# Altium schematic symbol library ESP32-S3-WROOM-1.SchLib: 61 symbols (part 1 of 7)
Pins are listed as number, name and electrical type; pins without a type are passive.

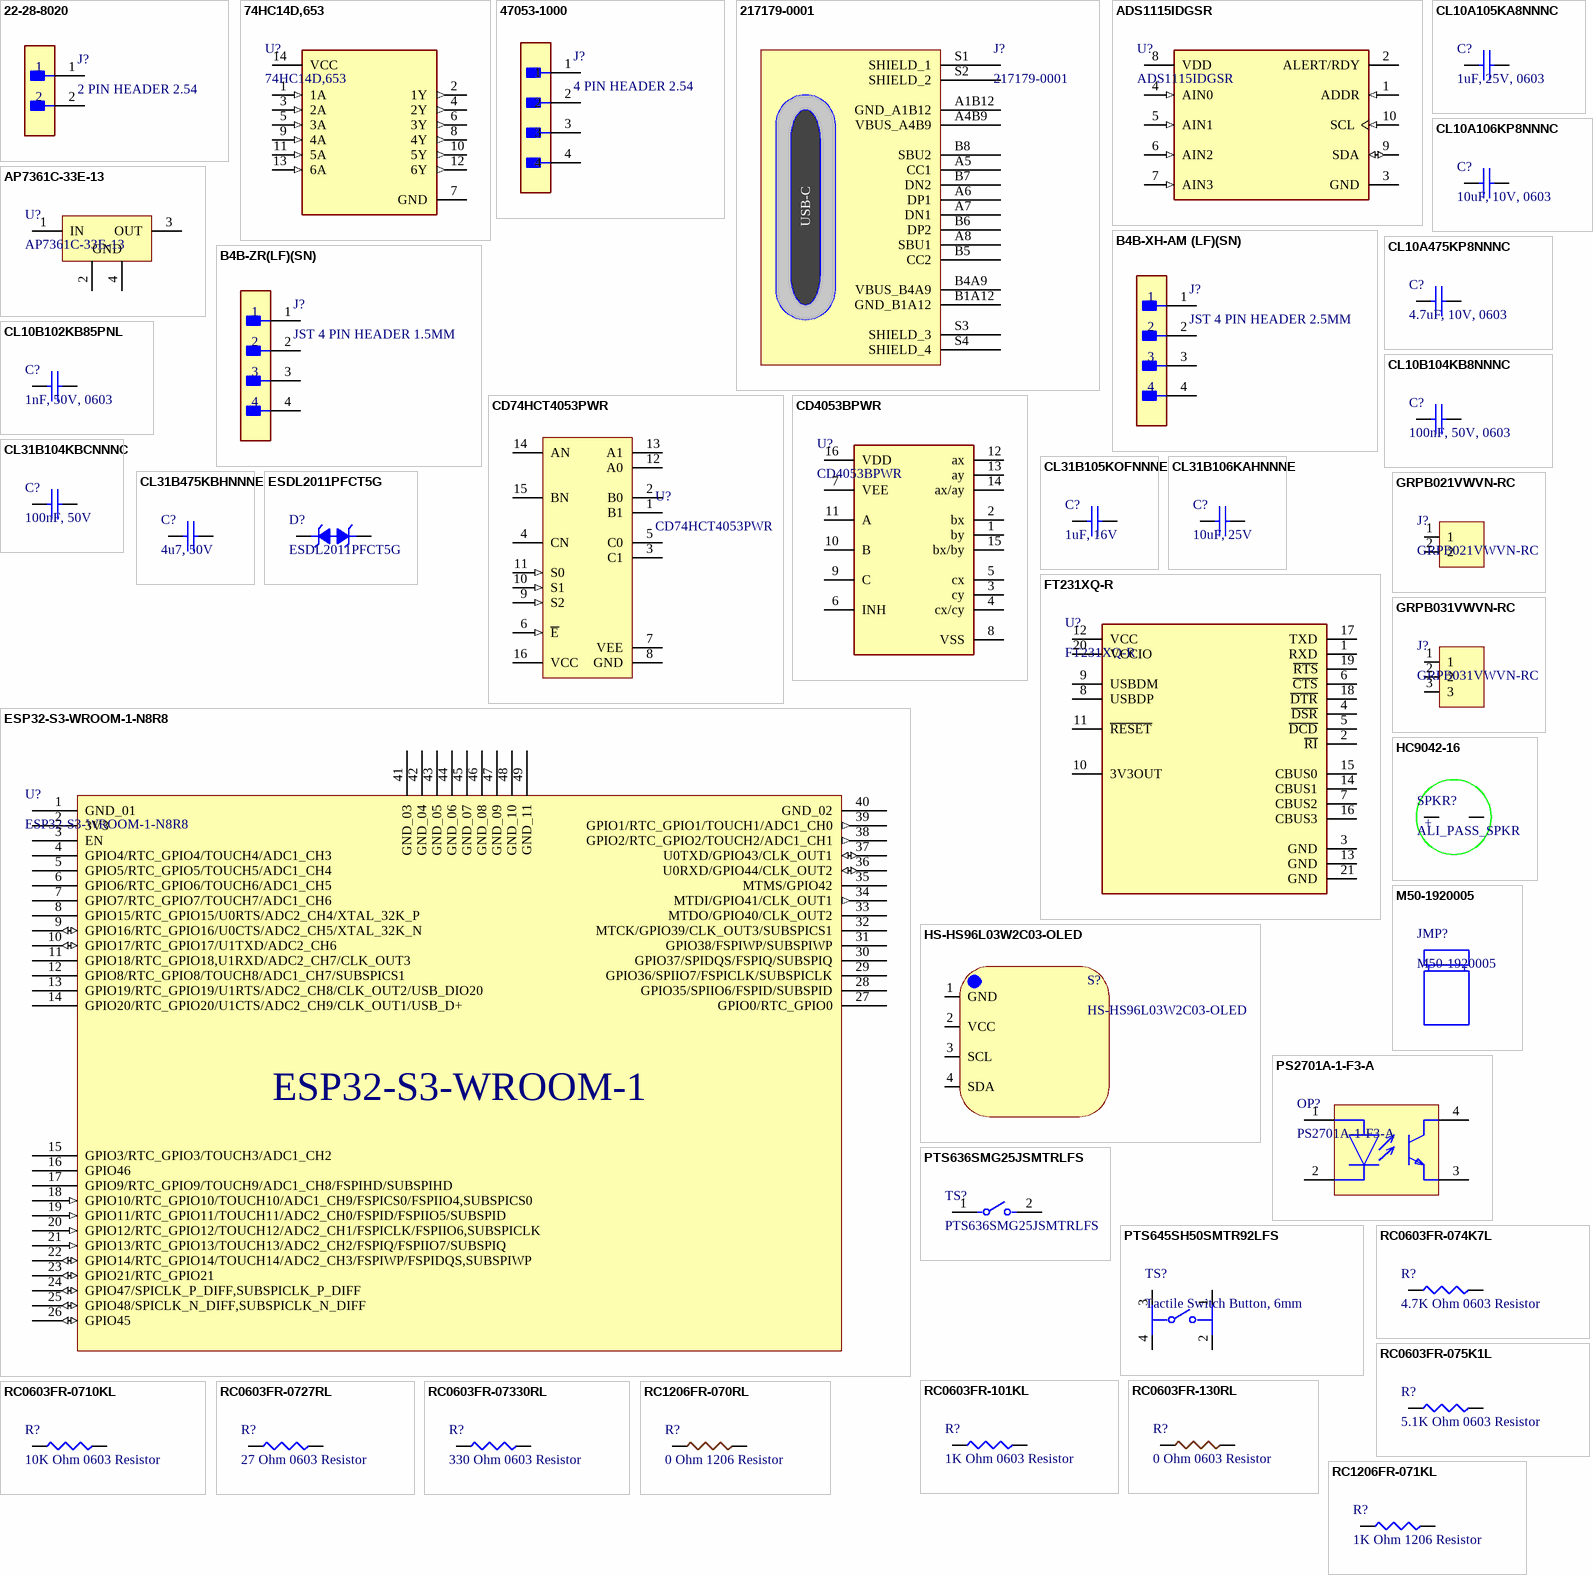
[diagram p0: symbols 22-28-8020 to RC1206FR-071KL]

## 22-28-8020
designator J?, comment 2 PIN HEADER 2.54
CONN HEADER R/A 2POS 2.54MM; Manufacturer: Molex; Manufacturer Lifecycle Status: ACTIVE; Contact Resistance: 10mΩ; Current Rating: 4A; Gender: Male; Glow Wire Compliant: Non-compliant; Insulation Resistance: 1GΩ; Max Voltage Rating (DC): 250.25kV; Number of Circuits: 2; Operating Force: 4.8928N; Plating: Tin; Plating Thickness: 2.54µm; Voltage Rating: 500V; Voltage Rating (DC): 250V; Supplier: DigiKey; Supplier Part Number: WM50013-02-ND; Manufacturer Part Number: 22-28-8020; RoHS: Compliant; Category: Headers and Wire Housings; Stock: 771; Pricing: 1=0.38, 10=0.318, 100=0.38, 500=0.24124, 1000=0.22972, 5000=0.20505, 10000=0.19526 (EUR); China RoHS: Compliant; Color: Black; Contact Gender: Male; Contact Material: Nickel, Tin; Contact Plating: Tin; Country of Origin: US; Flammability Rating: UL94 V-0; Height: 2.74mm; Housing Color: Black; Housing Material: Thermoplastic; Lead Free: Lead Free; Lead Pitch: 2.54mm; Lifecycle Status: Production; Max Operating Temperature: 80°C; Min Operating Temperature: -40°C; Mounting Technology: Through Hole; Number of Contacts: 2; Pins: 2; Number of Positions: 2; Number of Rows: 1; Orientation: Right Angle; Packaging: Bulk; Pitch: 2.54mm; Radiation Hardening: No; REACH SVHC: Yes; Terminal Pitch: 2.54mm; Termination: Through Hole; ComponentLink1URL: https://datasheet.octopart.com:443/22-28-8020-Molex-datasheet-158885819.pdf?src-supplier=Newark; ComponentLink1Description: https://datasheet.octopart.com:443/22-28-8020-Molex-datasheet-158885819.pdf?src-supplier=Newark; ComponentLink2URL: https://datasheet.octopart.com:443/22-28-8020-Molex-datasheet-16301288.pdf?src-supplier=Molex; ComponentLink2Description: https://datasheet.octopart.com:443/22-28-8020-Molex-datasheet-16301288.pdf?src-supplier=Molex; ComponentLink3URL: https://sigma.octopart.com:443/12577388/technical_drawing/Molex-22-28-8020.pdf?src-supplier=Molex; ComponentLink3Description: https://sigma.octopart.com:443/12577388/technical_drawing/Molex-22-28-8020.pdf?src-supplier=Molex; ComponentLink4URL: https://datasheet.octopart.com:443/022288020-Molex-datasheet-8335722.pdf?src-supplier=Molex; ComponentLink4Description: https://datasheet.octopart.com:443/022288020-Molex-datasheet-8335722.pdf?src-supplier=Molex; ComponentLink5URL: https://datasheet.octopart.com:443/22-28-8020-Molex-datasheet-77519799.pdf?src-supplier=element14+APAC; ComponentLink5Description: https://datasheet.octopart.com:443/22-28-8020-Molex-datasheet-77519799.pdf?src-supplier=element14+APAC; ComponentLink6URL: https://datasheet.octopart.com:443/22-28-8020-Molex-datasheet-21206989.pdf?src-supplier=element14+APAC; ComponentLink6Description: https://datasheet.octopart.com:443/22-28-8020-Molex-datasheet-21206989.pdf?src-supplier=element14+APAC; ComponentLink7URL: https://datasheet.octopart.com:443/22-28-8020-Molex-datasheet-66628180.pdf?src-supplier=element14+APAC; ComponentLink7Description: https://datasheet.octopart.com:443/22-28-8020-Molex-datasheet-66628180.pdf?src-supplier=element14+APAC; ComponentLink8URL: https://datasheet.octopart.com:443/22-28-8020-Molex-datasheet-154747351.pdf?src-supplier=Master+Electronics; ComponentLink8Description: https://datasheet.octopart.com:443/22-28-8020-Molex-datasheet-154747351.pdf?src-supplier=Master+Electronics; ComponentLink9URL: https://datasheet.octopart.com:443/22-28-8020-Molex-datasheet-140181320.pdf?src-supplier=RS+(Formerly+Allied+Electronics); ComponentLink9Description: https://datasheet.octopart.com:443/22-28-8020-Molex-datasheet-140181320.pdf?src-supplier=RS+(Formerly+Allied+Electronics); ComponentLink10URL: https://datasheet.octopart.com:443/22-28-8020-Molex-datasheet-120146384.pdf?src-supplier=RS+(Formerly+Allied+Electronics); ComponentLink10Description: https://datasheet.octopart.com:443/22-28-8020-Molex-datasheet-120146384.pdf?src-supplier=RS+(Formerly+Allied+Electronics); ComponentLink11URL: https://datasheet.octopart.com:443/22-28-8020-Molex-datasheet-62280231.pdf?src-supplier=Electro+Sonic; ComponentLink11Description: https://datasheet.octopart.com:443/22-28-8020-Molex-datasheet-62280231.pdf?src-supplier=Electro+Sonic; ComponentLink12URL: https://datasheet.octopart.com:443/22-28-8020-Molex-datasheet-42201833.pdf?src-supplier=Electro+Sonic; ComponentLink12Description: https://datasheet.octopart.com:443/22-28-8020-Molex-datasheet-42201833.pdf?src-supplier=Electro+Sonic; ComponentLink13URL: https://datasheet.octopart.com:443/22-28-8020-Molex-datasheet-132467.pdf?src-supplier=DigiKey; ComponentLink13Description: https://datasheet.octopart.com:443/22-28-8020-Molex-datasheet-132467.pdf?src-supplier=DigiKey; ComponentLink14URL: http://sigma.octopart.com:80/16301292/rohs_statement/Molex-22-28-8020.pdf?src-supplier=Compliance+Statements; ComponentLink14Description: http://sigma.octopart.com:80/16301292/rohs_statement/Molex-22-28-8020.pdf?src-supplier=Compliance+Statements; ComponentLink15URL: http://sigma.octopart.com:80/conflict_mineral_statement/Molex-company-72.pdf?src-supplier=Compliance+Statements; ComponentLink15Description: http://sigma.octopart.com:80/conflict_mineral_statement/Molex-company-72.pdf?src-supplier=Compliance+Statements; ComponentLink16URL: http://sigma.octopart.com:80/rohs_statement/Molex-company-73.pdf?src-supplier=Compliance+Statements; ComponentLink16Description: http://sigma.octopart.com:80/rohs_statement/Molex-company-73.pdf?src-supplier=Compliance+Statements; ComponentLink17URL: http://sigma.octopart.com:80/reach_statement/Molex-company-74.pdf?src-supplier=Compliance+Statements; ComponentLink17Description: http://sigma.octopart.com:80/reach_statement/Molex-company-74.pdf?src-supplier=Compliance+Statements; LCSC Part Number: C225488
footprint 22-28-8020
pins: 1, 2

## 74HC14D,653
designator U?
IC INVERT SCHMITT 6CH 1-INP 14SO; Manufacturer: Nexperia; Manufacturer Lifecycle Status: RELEASED FOR SUPPLY; Frequency: 36MHz; Load Capacitance: 50pF; Low Level Output Current: 4mA; Max Supply Current: 50mA; Max Supply Voltage: 6V; Min Supply Voltage: 2V; Nominal Supply Current: 2µA; Number of Circuits: 6; Number of Inputs: 1; Operating Supply Voltage: 5V; Output Current: 5.2mA; Propagation Delay: 38ns; Schmitt Trigger Input: Yes; Supplier: DigiKey; Supplier Part Number: 1727-2783-1-ND; Manufacturer Part Number: 74HC14D,653; RoHS: Compliant; Category: Logic Gates; Stock: 25804; Pricing: 1=0.18, 10=0.122, 25=0.18, 100=0.0919, 250=0.08432, 500=0.07976, 1000=0.07602 (EUR); Ambient Temperature Range High: 125°C; China RoHS: Compliant; Height: 1.75mm; Height - Seated (Max): 1.75mm; Length: 8.65mm; Lifecycle Status: Production; Max Operating Temperature: 125°C; Min Operating Temperature: -40°C; Number of Outputs: 1; Pins: 14; Number of Terminals: 14; Quiescent Current: 2µA; REACH SVHC: Yes; Schedule B: 8542390000, 8542390000|8542390000|8542390000|8542390000|8542390000; Terminal Pitch: 1.27mm; Width: 3.9mm; ComponentLink1URL: https://sigma.octopart.com:443/138897138/technical_drawing/Nexperia-74HC14D%2C653.pdf?src-supplier=Upverter; ComponentLink1Description: https://sigma.octopart.com:443/138897138/technical_drawing/Nexperia-74HC14D%2C653.pdf?src-supplier=Upverter; ComponentLink2URL: https://datasheet.octopart.com:443/74HC14D%2C653-Nexperia-datasheet-86672698.pdf?src-supplier=IHS; ComponentLink2Description: https://datasheet.octopart.com:443/74HC14D%2C653-Nexperia-datasheet-86672698.pdf?src-supplier=IHS; ComponentLink3URL: https://datasheet.octopart.com:443/74HC14D%2C653-Nexperia-datasheet-59159939.pdf?src-supplier=IHS; ComponentLink3Description: https://datasheet.octopart.com:443/74HC14D%2C653-Nexperia-datasheet-59159939.pdf?src-supplier=IHS; ComponentLink4URL: https://datasheet.octopart.com:443/74HC14D%2C653-Nexperia-datasheet-12513506.pdf?src-supplier=element14+APAC; ComponentLink4Description: https://datasheet.octopart.com:443/74HC14D%2C653-Nexperia-datasheet-12513506.pdf?src-supplier=element14+APAC; ComponentLink5URL: https://datasheet.octopart.com:443/74HC14D%2C653-Nexperia-datasheet-8886356.pdf?src-supplier=element14+APAC; ComponentLink5Description: https://datasheet.octopart.com:443/74HC14D%2C653-Nexperia-datasheet-8886356.pdf?src-supplier=element14+APAC; ComponentLink6URL: https://datasheet.octopart.com:443/74HC14D%2C653-Nexperia-datasheet-9573.pdf?src-supplier=element14+APAC; ComponentLink6Description: https://datasheet.octopart.com:443/74HC14D%2C653-Nexperia-datasheet-9573.pdf?src-supplier=element14+APAC; ComponentLink7URL: https://datasheet.octopart.com:443/74HC14D%2C653-NXP-Semiconductors-datasheet-8374301.pdf?src-supplier=Jameco; ComponentLink7Description: https://datasheet.octopart.com:443/74HC14D%2C653-NXP-Semiconductors-datasheet-8374301.pdf?src-supplier=Jameco; ComponentLink8URL: http://sigma.octopart.com:80/rohs_statement/NXP-Semiconductors-company-12.pdf?src-supplier=Compliance+Statements; ComponentLink8Description: http://sigma.octopart.com:80/rohs_statement/NXP-Semiconductors-company-12.pdf?src-supplier=Compliance+Statements; ComponentLink9URL: http://sigma.octopart.com:80/reach_statement/NXP-Semiconductors-company-13.pdf?src-supplier=Compliance+Statements; ComponentLink9Description: http://sigma.octopart.com:80/reach_statement/NXP-Semiconductors-company-13.pdf?src-supplier=Compliance+Statements; LCSC Part Number: C5605
footprint 74HC14D,653
pins: 1 1A (in), 2 1Y (out), 3 2A (in), 4 2Y (out), 5 3A (in), 6 3Y (out), 7 GND (power), 8 4Y (out), 9 4A (in), 10 5Y (out), 11 5A (in), 12 6Y (out), 13 6A (in), 14 VCC (power)

## 47053-1000
designator J?, comment 4 PIN HEADER 2.54
CONN HEADER VERT 4POS 2.54MM; Manufacturer: Molex; Manufacturer Part Number: 47053-1000; Manufacturer Lifecycle Status: ACTIVE; Current Rating: 500mA; Dielectric Material: Polyamide; Gender: Male; Glow Wire Compliant: Non-compliant; Number of Circuits: 2; Number of Contacts: 4; Operating Force: 1.946N; Plating: Copper; Plating Thickness: 2.54µm; Voltage Rating: 500V; Voltage Rating (DC): 250V; Supplier: DigiKey; Supplier Part Number: WM4330-ND; RoHS: Compliant; Category: Headers and Wire Housings; Stock: 47133; Pricing: 1=0.42, 10=0.354, 100=0.42, 500=0.26844, 1000=0.25562, 5000=0.22817, 10000=0.21729 (EUR); Ambient Temperature Range High: 105°C; China RoHS: Compliant; Contact Gender: Male; Contact Material: Brass; Contact Plating: Tin; Country of Origin: HK; Depth: 5.84mm; Halogen Free: Low Halogen; Height: 7.7mm; Housing Color: Beige; Housing Material: Nylon; Lead Pitch: 2.54mm; Length: 10.2mm; Lifecycle Status: Production; Max Operating Temperature: 75°C; Min Operating Temperature: -40°C; Mounting Technology: Through Hole; Pins: 4; Number of Positions: 4; Number of Rows: 1; Orientation: Vertical; Packaging: Bulk; Pitch: 2.54mm; Radiation Hardening: No; REACH SVHC: Yes; Schedule B: 8536694040, 8536694040|8536694040|8536694040|8536694040|8536694040|8536694040|8536694040|8536694040|8536694040|8536694040|8536694040|8536694040|8536694040|8536694040|8536694040|8536694040|8536694040|8536694040|8536694040|8536694040|8536694040|8536694040|8536694040|85; Terminal Pitch: 2.54mm; Termination: Through Hole; ComponentLink1URL: https://datasheet.octopart.com:443/47053-1000-Molex-datasheet-154585791.pdf?src-supplier=Sager+Electronics; ComponentLink1Description: https://datasheet.octopart.com:443/47053-1000-Molex-datasheet-154585791.pdf?src-supplier=Sager+Electronics; ComponentLink2URL: https://datasheet.octopart.com:443/47053-1000-Molex-datasheet-13792061.pdf?src-supplier=Sager+Electronics; ComponentLink2Description: https://datasheet.octopart.com:443/47053-1000-Molex-datasheet-13792061.pdf?src-supplier=Sager+Electronics; ComponentLink3URL: https://datasheet.octopart.com:443/0470531000-Molex-datasheet-157440094.pdf?src-supplier=Sager+Electronics; ComponentLink3Description: https://datasheet.octopart.com:443/0470531000-Molex-datasheet-157440094.pdf?src-supplier=Sager+Electronics; ComponentLink4URL: https://sigma.octopart.com:443/154585790/technical_drawing/Molex-47053-1000.pdf?src-supplier=Upverter; ComponentLink4Description: https://sigma.octopart.com:443/154585790/technical_drawing/Molex-47053-1000.pdf?src-supplier=Upverter; ComponentLink5URL: https://datasheet.octopart.com:443/47053-1000-Molex-datasheet-141422371.pdf?src-supplier=Upverter; ComponentLink5Description: https://datasheet.octopart.com:443/47053-1000-Molex-datasheet-141422371.pdf?src-supplier=Upverter; ComponentLink6URL: https://datasheet.octopart.com:443/47053-1000-Molex-datasheet-154585785.pdf?src-supplier=Upverter; ComponentLink6Description: https://datasheet.octopart.com:443/47053-1000-Molex-datasheet-154585785.pdf?src-supplier=Upverter; ComponentLink7URL: https://datasheet.octopart.com:443/47053-1000-Molex-datasheet-16078519.pdf?src-supplier=TME; ComponentLink7Description: https://datasheet.octopart.com:443/47053-1000-Molex-datasheet-16078519.pdf?src-supplier=TME; ComponentLink8URL: https://datasheet.octopart.com:443/470531000-Molex-datasheet-8344792.pdf?src-supplier=Molex; ComponentLink8Description: https://datasheet.octopart.com:443/470531000-Molex-datasheet-8344792.pdf?src-supplier=Molex; ComponentLink9URL: https://datasheet.octopart.com:443/47053-1000-Molex-datasheet-101583033.pdf?src-supplier=element14+APAC; ComponentLink9Description: https://datasheet.octopart.com:443/47053-1000-Molex-datasheet-101583033.pdf?src-supplier=element14+APAC; ComponentLink10URL: https://datasheet.octopart.com:443/47053-1000-Molex-datasheet-154752195.pdf?src-supplier=Master+Electronics; ComponentLink10Description: https://datasheet.octopart.com:443/47053-1000-Molex-datasheet-154752195.pdf?src-supplier=Master+Electronics; ComponentLink11URL: https://datasheet.octopart.com:443/47053-1000-Molex-datasheet-33003494.pdf?src-supplier=Electro+Sonic; ComponentLink11Description: https://datasheet.octopart.com:443/47053-1000-Molex-datasheet-33003494.pdf?src-supplier=Electro+Sonic; ComponentLink12URL: https://datasheet.octopart.com:443/47053-1000-Molex-datasheet-62104864.pdf?src-supplier=Electro+Sonic; ComponentLink12Description: https://datasheet.octopart.com:443/47053-1000-Molex-datasheet-62104864.pdf?src-supplier=Electro+Sonic; ComponentLink13URL: https://datasheet.octopart.com:443/47053-1000-Molex-datasheet-24932734.pdf?src-supplier=Electro+Sonic; ComponentLink13Description: https://datasheet.octopart.com:443/47053-1000-Molex-datasheet-24932734.pdf?src-supplier=Electro+Sonic; ComponentLink14URL: https://datasheet.octopart.com:443/47053-1000-Molex-datasheet-140185186.pdf?src-supplier=RS+(Formerly+Allied+Electronics); ComponentLink14Description: https://datasheet.octopart.com:443/47053-1000-Molex-datasheet-140185186.pdf?src-supplier=RS+(Formerly+Allied+Electronics); ComponentLink15URL: https://datasheet.octopart.com:443/47053-1000-Molex-datasheet-120151286.pdf?src-supplier=RS+(Formerly+Allied+Electronics); ComponentLink15Description: https://datasheet.octopart.com:443/47053-1000-Molex-datasheet-120151286.pdf?src-supplier=RS+(Formerly+Allied+Electronics); ComponentLink16URL: https://datasheet.octopart.com:443/47053-1000-Molex-datasheet-31972472.pdf?src-supplier=RS+(Formerly+Allied+Electronics); ComponentLink16Description: https://datasheet.octopart.com:443/47053-1000-Molex-datasheet-31972472.pdf?src-supplier=RS+(Formerly+Allied+Electronics); ComponentLink17URL: https://datasheet.octopart.com:443/47053-1000-Molex-datasheet-37247467.pdf?src-supplier=RS+(Formerly+Allied+Electronics); ComponentLink17Description: https://datasheet.octopart.com:443/47053-1000-Molex-datasheet-37247467.pdf?src-supplier=RS+(Formerly+Allied+Electronics); ComponentLink18URL: https://datasheet.octopart.com:443/470531000-Molex-datasheet-137316104.pdf?src-supplier=Future+Electronics; ComponentLink18Description: https://datasheet.octopart.com:443/470531000-Molex-datasheet-137316104.pdf?src-supplier=Future+Electronics; ComponentLink19URL: https://datasheet.octopart.com:443/47053-1000-Molex-datasheet-42575110.pdf?src-supplier=Farnell; ComponentLink19Description: https://datasheet.octopart.com:443/47053-1000-Molex-datasheet-42575110.pdf?src-supplier=Farnell; ComponentLink20URL: https://datasheet.octopart.com:443/470531000-Molex-datasheet-151821780.pdf?src-supplier=Toby+Electronics; ComponentLink20Description: https://datasheet.octopart.com:443/470531000-Molex-datasheet-151821780.pdf?src-supplier=Toby+Electronics; ComponentLink21URL: http://sigma.octopart.com:80/16397823/rohs_statement/Molex-47053-1000.pdf?src-supplier=Compliance+Statements; ComponentLink21Description: http://sigma.octopart.com:80/16397823/rohs_statement/Molex-47053-1000.pdf?src-supplier=Compliance+Statements; ComponentLink22URL: http://sigma.octopart.com:80/conflict_mineral_statement/Molex-company-72.pdf?src-supplier=Compliance+Statements; ComponentLink22Description: http://sigma.octopart.com:80/conflict_mineral_statement/Molex-company-72.pdf?src-supplier=Compliance+Statements; ComponentLink23URL: http://sigma.octopart.com:80/rohs_statement/Molex-company-73.pdf?src-supplier=Compliance+Statements; ComponentLink23Description: http://sigma.octopart.com:80/rohs_statement/Molex-company-73.pdf?src-supplier=Compliance+Statements; ComponentLink24URL: http://sigma.octopart.com:80/reach_statement/Molex-company-74.pdf?src-supplier=Compliance+Statements; ComponentLink24Description: http://sigma.octopart.com:80/reach_statement/Molex-company-74.pdf?src-supplier=Compliance+Statements; LCSC Part Number: C240840
footprint 47053-1000
pins: 1, 2, 3, 4

## 217179-0001
designator J?
CONN RCP USB2.0 TYP C 24P SMD RA; Manufacturer: Molex; Contact Resistance: 50mΩ; Current Rating: 1.25A; Dielectric Material: Polyamide; Gender: Receptacle; Insulation Resistance: 100MΩ; Number of Contacts: 16; Number of Ports: 1; Voltage Rating: 30V; Supplier: DigiKey; Supplier Part Number: 900-2171790001CT-ND; Manufacturer Part Number: 217179-0001; RoHS: Compliant; Category: USB Connectors; Stock: 5092; Pricing: 1=0.83, 10=0.704, 25=0.6596, 50=0.628, 100=0.598, 250=0.56052, 500=0.53374, 1200=0.50175, 2400=0.4778, 3600=0.46433, 6000=0.4479, 8400=0.4374, 12000=0.42654 (USD); Contact Gender: Female; Contact Material: Gold, Nickel; Height: 3.36mm; Lifecycle Status: Production; Max Operating Temperature: 85°C; Min Operating Temperature: -40°C; Pins: 16; Number of Rows: 1; REACH SVHC: Yes; Shell Finish: Nickel; Shell Material: Stainless Steel; Terminal Pitch: 500µm; USB Standard: USB 2.0; ComponentLink1URL: https://datasheet.octopart.com:443/217179-0001-Molex-datasheet-158871109.pdf?src-supplier=ODG+(Origin+Data+Global); ComponentLink1Description: https://datasheet.octopart.com:443/217179-0001-Molex-datasheet-158871109.pdf?src-supplier=ODG+(Origin+Data+Global); ComponentLink2URL: https://sigma.octopart.com:443/158871110/technical_drawing/Molex-217179-0001.pdf?src-supplier=Upverter; ComponentLink2Description: https://sigma.octopart.com:443/158871110/technical_drawing/Molex-217179-0001.pdf?src-supplier=Upverter; ComponentLink3URL: https://datasheet.octopart.com:443/217179-0001-Molex-datasheet-164573281.pdf?src-supplier=RS+(Formerly+Allied+Electronics); ComponentLink3Description: https://datasheet.octopart.com:443/217179-0001-Molex-datasheet-164573281.pdf?src-supplier=RS+(Formerly+Allied+Electronics); ComponentLink4URL: http://sigma.octopart.com:80/conflict_mineral_statement/Molex-company-72.pdf?src-supplier=Compliance+Statements; ComponentLink4Description: http://sigma.octopart.com:80/conflict_mineral_statement/Molex-company-72.pdf?src-supplier=Compliance+Statements; ComponentLink5URL: http://sigma.octopart.com:80/rohs_statement/Molex-company-73.pdf?src-supplier=Compliance+Statements; ComponentLink5Description: http://sigma.octopart.com:80/rohs_statement/Molex-company-73.pdf?src-supplier=Compliance+Statements; ComponentLink6URL: http://sigma.octopart.com:80/reach_statement/Molex-company-74.pdf?src-supplier=Compliance+Statements; ComponentLink6Description: http://sigma.octopart.com:80/reach_statement/Molex-company-74.pdf?src-supplier=Compliance+Statements; LCSC Part Number: C3197684
footprint 217179-0001
pins: A1B12 GND_A1B12, A4B9 VBUS_A4B9, A5 CC1, A6 DP1, A7 DN1, A8 SBU1, B1A12 GND_B1A12, B4A9 VBUS_B4A9, B5 CC2, B6 DP2, B7 DN2, B8 SBU2, S1 SHIELD_1, S2 SHIELD_2, S3 SHIELD_3, S4 SHIELD_4
text: USB-C

## ADS1115IDGSR
designator U?
IC ADC 16BIT SIGMA-DELTA 10VSSOP; Manufacturer: Texas Instruments; Manufacturer Lifecycle Status: ACTIVE; Conversion Rate: 860sps; Integral Nonlinearity (INL): 1LSB; Interface: I2C; Max Junction Temperature (Tj): 150°C; Max Supply Voltage: 5.5V; Min Supply Voltage: 2V; Nominal Supply Current: 150µA; Number of A/D Converters: 1; Number of Bits: 16; Number of Channels: 2; Number of Inputs: 4; Polarity: Bipolar; Power Dissipation: 900µW; Resolution: 2B; Supply Type: Single; Supplier: DigiKey; Supplier Part Number: 296-38849-1-ND; Manufacturer Part Number: ADS1115IDGSR; RoHS: Compliant; Category: Analog to Digital Converters (ADCs); Stock: 9217; Pricing: 1=4.36, 10=3.329, 25=4.36, 100=2.785, 250=2.64912, 500=2.56724, 1000=2.49986 (EUR); Ambient Temperature Range High: 125°C; Case/Package: VSSOP; Contact Plating: Gold; Height: 1.07mm; Lead Free: Lead Free; Length: 3mm; Lifecycle Status: Production; Max Operating Temperature: 125°C; Max Supply Voltage (DC): 5.5V; Min Operating Temperature: -40°C; Min Supply Voltage (DC): 2V; Number of Converters: 1; Pins: 10; Radiation Hardening: No; REACH SVHC: No; Sampling Rate: 860sps; Schedule B: 8542390000, 8542390000|8542390000|8542390000|8542390000|8542390000; Thickness: 1.02mm; Width: 3mm; ComponentLink1URL: https://datasheet.octopart.com:443/ADS1115IDGSR-Texas-Instruments-datasheet-21818186.pdf?src-supplier=Newark; ComponentLink1Description: https://datasheet.octopart.com:443/ADS1115IDGSR-Texas-Instruments-datasheet-21818186.pdf?src-supplier=Newark; ComponentLink2URL: https://octopart.com:443/opatz8j6/c1?t=IuqcA-XNANVnUgh6bO5qed4pAqyN2BqXsIjLAySB2Hr-eHtD8pK9l6OOA6AGsTuVanxQmOkBsFQN-rlHciEN_k6CTJvcjzCJlSq-wVqGrNuiBwTkWy4ml0ROCJtQ1-lij77U2D_WoJ3znwfT0mMt9ikQ9I9gRMar-xW9CqMxsY2FjbMMvAysjMOkXQ1FlQyveQwqsSa6_aCP81y3rIEwyR4aAdYLYQAG9CvpdWj9_mOw_IWbI1A0mS4Nr3T47cwXgL4gd3vwJQBENC_vJJ1ljWY6eimCFVEfMSp8To8QyZoXqbl__zcnRO1ari-Z50yUygNu99GuoBJUHWWpTBL6cSd8XR7eVfe8TQCRE2bK5TYPZsJNK_jD7hLJEK0orzhEdbBg33g&src-supplier=Texas+Instruments; ComponentLink2Description: https://octopart.com:443/opatz8j6/c1?t=IuqcA-XNANVnUgh6bO5qed4pAqyN2BqXsIjLAySB2Hr-eHtD8pK9l6OOA6AGsTuVanxQmOkBsFQN-rlHciEN_k6CTJvcjzCJlSq-wVqGrNuiBwTkWy4ml0ROCJtQ1-lij77U2D_WoJ3znwfT0mMt9ikQ9I9gRMar-xW9CqMxsY2FjbMMvAysjMOkXQ1FlQyveQwqsSa6_aCP81y3rIEwyR4aAdYLYQAG9CvpdWj9_mOw_IWbI1A0mS4Nr3T47cwXgL4gd3vwJQBENC_vJJ1ljWY6eimCFVEfMSp8To8QyZoXqbl__zcnRO1ari-Z50yUygNu99GuoBJUHWWpTBL6cSd8XR7eVfe8TQCRE2bK5TYPZsJNK_jD7hLJEK0orzhEdbBg33g&src-supplier=Texas+Instruments; ComponentLink3URL: https://datasheet.octopart.com:443/ADS1115IDGSR-Texas-Instruments-datasheet-10254488.pdf?src-supplier=Texas+Instruments; ComponentLink3Description: https://datasheet.octopart.com:443/ADS1115IDGSR-Texas-Instruments-datasheet-10254488.pdf?src-supplier=Texas+Instruments; ComponentLink4URL: https://datasheet.octopart.com:443/ADS1115IDGSR-Texas-Instruments-datasheet-10258908.pdf?src-supplier=Texas+Instruments; ComponentLink4Description: https://datasheet.octopart.com:443/ADS1115IDGSR-Texas-Instruments-datasheet-10258908.pdf?src-supplier=Texas+Instruments; ComponentLink5URL: https://sigma.octopart.com:443/49250172/technical_drawing/Texas-Instruments-ADS1115IDGSR.pdf?src-supplier=Texas+Instruments; ComponentLink5Description: https://sigma.octopart.com:443/49250172/technical_drawing/Texas-Instruments-ADS1115IDGSR.pdf?src-supplier=Texas+Instruments; ComponentLink6URL: https://datasheet.octopart.com:443/ADS1115IDGSR-Texas-Instruments-datasheet-159114584.pdf?src-supplier=LCSC; ComponentLink6Description: https://datasheet.octopart.com:443/ADS1115IDGSR-Texas-Instruments-datasheet-159114584.pdf?src-supplier=LCSC; ComponentLink7URL: https://datasheet.octopart.com:443/ADS1115IDGSR-Texas-Instruments-datasheet-164412415.pdf?src-supplier=SHENGYU+ELECTRONICS; ComponentLink7Description: https://datasheet.octopart.com:443/ADS1115IDGSR-Texas-Instruments-datasheet-164412415.pdf?src-supplier=SHENGYU+ELECTRONICS; ComponentLink8URL: https://datasheet.octopart.com:443/ADS1115IDGSR-Texas-Instruments-datasheet-78774318.pdf?src-supplier=Farnell; ComponentLink8Description: https://datasheet.octopart.com:443/ADS1115IDGSR-Texas-Instruments-datasheet-78774318.pdf?src-supplier=Farnell; ComponentLink9URL: https://datasheet.octopart.com:443/ADS1115IDGSR-Texas-Instruments-datasheet-150582607.pdf?src-supplier=Arrow.cn; ComponentLink9Description: https://datasheet.octopart.com:443/ADS1115IDGSR-Texas-Instruments-datasheet-150582607.pdf?src-supplier=Arrow.cn; ComponentLink10URL: https://datasheet.octopart.com:443/ADS1115IDGSR-Texas-Instruments-datasheet-14070808.pdf?src-supplier=iiiC; ComponentLink10Description: https://datasheet.octopart.com:443/ADS1115IDGSR-Texas-Instruments-datasheet-14070808.pdf?src-supplier=iiiC; ComponentLink11URL: http://sigma.octopart.com:80/conflict_mineral_statement/Texas-Instruments-company-63.pdf?src-supplier=Compliance+Statements; ComponentLink11Description: http://sigma.octopart.com:80/conflict_mineral_statement/Texas-Instruments-company-63.pdf?src-supplier=Compliance+Statements; ComponentLink12URL: http://sigma.octopart.com:80/reach_statement/Texas-Instruments-company-64.pdf?src-supplier=Compliance+Statements; ComponentLink12Description: http://sigma.octopart.com:80/reach_statement/Texas-Instruments-company-64.pdf?src-supplier=Compliance+Statements; LCSC Part Number: C37593
footprint ADS1115IDGSR
pins: 1 ADDR (in), 2 ALERT/RDY (oc), 3 GND (power), 4 AIN0 (in), 5 AIN1 (in), 6 AIN2 (in), 7 AIN3 (in), 8 VDD (power), 9 SDA (io), 10 SCL (in)

## AP7361C-33E-13
designator U?
IC REG LINEAR 3.3V 1A SOT-223-3; Manufacturer: Diodes Inc.; Dropout Voltage: 360mV; Max Supply Voltage: 6V; Max Junction Temperature (Tj): 150°C; Min Current Limit: 1.1A; Min Input Voltage: 4.3V; Number of Channels: 1; Voltage Tolerance: 1%; Supplier: DigiKey; Supplier Part Number: AP7361C-33E-13DICT-ND; Manufacturer Part Number: AP7361C-33E-13; RoHS: Compliant; Category: LDO Voltage Regulators; Stock: 4888; Pricing: 1=0.39, 10=0.274, 25=0.39, 100=0.2121, 250=0.19664, 500=0.1873, 1000=0.17961 (EUR); Case/Package: TO-261-4; China RoHS: Compliant; Height - Seated (Max): 1.8mm; Length: 6.5mm; Lifecycle Status: Production; Max Operating Temperature: 85°C; Min Operating Temperature: -40°C; Mounting Technology: Surface Mount; Number of Circuits: 1; Pins: 3; Number of Regulators: 1; Number of Terminals: 3; Output Current: 1A; Output Voltage: 3.3V; REACH SVHC: Yes; Schedule B: 8542390000, 8542390000|8542390000|8542390000|8542390000|8542390000; Terminal Pitch: 2.3mm; Width: 3.5mm; ComponentLink1URL: https://datasheet.octopart.com:443/AP7361C-33E-13-Diodes-Inc.-datasheet-159616639.pdf?src-supplier=IHS; ComponentLink1Description: https://datasheet.octopart.com:443/AP7361C-33E-13-Diodes-Inc.-datasheet-159616639.pdf?src-supplier=IHS; ComponentLink2URL: https://datasheet.octopart.com:443/AP7361C-33E-13-Diodes-Inc.-datasheet-101745716.pdf?src-supplier=Future+Electronics; ComponentLink2Description: https://datasheet.octopart.com:443/AP7361C-33E-13-Diodes-Inc.-datasheet-101745716.pdf?src-supplier=Future+Electronics; ComponentLink3URL: https://datasheet.octopart.com:443/AP7361C-33E-13-Diodes-Inc.-datasheet-158996477.pdf?src-supplier=SHENGYU+ELECTRONICS; ComponentLink3Description: https://datasheet.octopart.com:443/AP7361C-33E-13-Diodes-Inc.-datasheet-158996477.pdf?src-supplier=SHENGYU+ELECTRONICS; LCSC Part Number: C500795
footprint AP7361C-33E-13
pins: 1 IN (power) "Input. Power is supplied to the device through the IN pin. A bypass capacitor is required on this pin if the device is more than six inches away from the main input filter capacitor. In general, the output impedance of a (See Datasheet)", 2 GND (power) "Ground", 3 OUT (power) "Output. The output supplies power to the load. A minimum output capacitor (ceramic) of 10 uF is required to prevent oscillations. Larger output capacitors are required for applications with large transient loads to limit (See Datasheet)", 4 GND (power) "Ground"

## B4B-XH-AM (LF)(SN)
designator J?, comment JST 4 PIN HEADER 2.5MM
CONN HEADER VERT 4POS 2.5MM; Manufacturer Part Number: B4B-XH-AM (LF)(SN); Connector Type: Male Pin; Contact Resistance: 20mΩ; Current Rating: 3A; Gender: Male; Insulation Resistance: 1GΩ; Max Voltage Rating (AC): 250V; Number of Contacts: 4; Pitch: 2.4892mm; Supplier: RS; Supplier Part Number: 1755314; Manufacturer: JST; RoHS: Compliant; Category: Headers and Wire Housings; Stock: 1000; Pricing: 500=0.151, 1000=0.142, 2500=0.135 (EUR); Color: Green; Contact Gender: Male; Contact Material: Brass; Contact Plating: Tin; Depth: 5.75mm; Fastening Type: Detent; Height: 7mm; Housing Color: White; Housing Material: Polyamide; Lead Free: Lead Free; Length: 12.4mm; Lifecycle Status: Production; Max Current Rating: 3A; Max Operating Temperature: 85°C; Min Operating Temperature: -25°C; Mounting Technology: Through Hole; Pins: 4; Number of Positions: 4; Number of Rows: 1; Orientation: Straight; Packaging: Box; REACH SVHC: Yes; Terminal Pitch: 2.5mm; Termination: Press-Fit; Voltage Rating: 250V; ComponentLink1URL: https://datasheet.octopart.com:443/B4B-XH-AM-%28LF%29%28SN%29-JST-datasheet-140264791.pdf?src-supplier=Upverter; ComponentLink1Description: https://datasheet.octopart.com:443/B4B-XH-AM-%28LF%29%28SN%29-JST-datasheet-140264791.pdf?src-supplier=Upverter; ComponentLink2URL: https://datasheet.octopart.com:443/B4B-XH-AM%28LF%29%28SN%29-JST-datasheet-138896056.pdf?src-supplier=IHS; ComponentLink2Description: https://datasheet.octopart.com:443/B4B-XH-AM%28LF%29%28SN%29-JST-datasheet-138896056.pdf?src-supplier=IHS; ComponentLink3URL: https://datasheet.octopart.com:443/B4B-XH-AM-%28LF%29%28SN%29-JST-datasheet-62336360.pdf?src-supplier=Newark; ComponentLink3Description: https://datasheet.octopart.com:443/B4B-XH-AM-%28LF%29%28SN%29-JST-datasheet-62336360.pdf?src-supplier=Newark; ComponentLink4URL: https://datasheet.octopart.com:443/B4B-XH-AM%28LF%29%28SN%29-JST-datasheet-8325564.pdf?src-supplier=Future+Electronics; ComponentLink4Description: https://datasheet.octopart.com:443/B4B-XH-AM%28LF%29%28SN%29-JST-datasheet-8325564.pdf?src-supplier=Future+Electronics; LCSC Part Number: C161871
footprint B4B-XH-AM (LF)(SN)
pins: 1, 2, 3, 4

## B4B-ZR(LF)(SN)
designator J?, comment JST 4 PIN HEADER 1.5MM
CONN HEADER VERT 4POS 1.5MM; Manufacturer Part Number: B4B-ZR(LF)(SN); Body Plating: Tin; Connector Type: Male Pin; Current Rating: 1A; Gender: Male; Insulation Resistance: 500MΩ; Max Voltage Rating (AC): 50V; Number of Contacts: 4; Panel Thickness: 3.5mm; Supplier: Mouser; Supplier Part Number: 306-B4B-ZRLFSN; Manufacturer: JST; RoHS: Compliant; Category: Headers and Wire Housings; Stock: 5361; Pricing: 1=0.15, 10=0.123, 50=0.123, 100=0.106, 1000=0.095, 10000=0.076 (USD); China RoHS: Compliant; Color: Natural, White; Contact Gender: Male; Contact Material: Brass; Contact Mating Length: 2.3876mm; Contact Plating: Tin; Depth: 3.5mm; Fastening Type: Detent; Flammability Rating: UL94 V-0; Height: 4.5mm; Housing Material: Polyamide; Lead Free: Lead Free; Lead Pitch: 1.5mm; Length: 5.08mm; Lifecycle Status: Production; Material: Nylon; Max Current Rating: 1A; Max Operating Temperature: 85°C; Min Operating Temperature: -25°C; Mounting Technology: Through Hole; Pins: 4; Number of Positions: 4; Number of Rows: 1; Packaging: Bulk; Pitch: 1.5mm; REACH SVHC: Yes; Schedule B: 8536694040; Terminal Pitch: 1.5mm; Termination: Crimp, Solder; Voltage Rating: 50V; Voltage Rating (AC): 50V; Voltage Rating (DC): 50V; Weight: 28.349523g; Width: 3.048mm; ComponentLink1URL: https://datasheet.octopart.com:443/B4B-ZR%28LF%29%28SN%29-JST-datasheet-151950299.pdf?src-supplier=Upverter; ComponentLink1Description: https://datasheet.octopart.com:443/B4B-ZR%28LF%29%28SN%29-JST-datasheet-151950299.pdf?src-supplier=Upverter; ComponentLink2URL: https://datasheet.octopart.com:443/B4B-ZR%28LF%29%28SN%29-JST-datasheet-180491797.pdf?src-supplier=IHS; ComponentLink2Description: https://datasheet.octopart.com:443/B4B-ZR%28LF%29%28SN%29-JST-datasheet-180491797.pdf?src-supplier=IHS; ComponentLink3URL: https://datasheet.octopart.com:443/B4B-ZR%28LF%29%28SN%29-JST-datasheet-11037208.pdf?src-supplier=element14+APAC; ComponentLink3Description: https://datasheet.octopart.com:443/B4B-ZR%28LF%29%28SN%29-JST-datasheet-11037208.pdf?src-supplier=element14+APAC; ComponentLink4URL: https://datasheet.octopart.com:443/B4B-ZR%28LF%29%28SN%29-JST-datasheet-539710.pdf?src-supplier=element14+APAC; ComponentLink4Description: https://datasheet.octopart.com:443/B4B-ZR%28LF%29%28SN%29-JST-datasheet-539710.pdf?src-supplier=element14+APAC; ComponentLink5URL: https://datasheet.octopart.com:443/B4B-ZR%28LF%29%28SN%29-JST-datasheet-12511041.pdf?src-supplier=Future+Electronics; ComponentLink5Description: https://datasheet.octopart.com:443/B4B-ZR%28LF%29%28SN%29-JST-datasheet-12511041.pdf?src-supplier=Future+Electronics; ComponentLink6URL: https://datasheet.octopart.com:443/B4B-ZR%28LF%29%28SN%29-JST-datasheet-8329135.pdf?src-supplier=Future+Electronics; ComponentLink6Description: https://datasheet.octopart.com:443/B4B-ZR%28LF%29%28SN%29-JST-datasheet-8329135.pdf?src-supplier=Future+Electronics; ComponentLink7URL: https://datasheet.octopart.com:443/B4B-ZR-%28LF%29%28SN%29-JST-datasheet-12514103.pdf?src-supplier=TME; ComponentLink7Description: https://datasheet.octopart.com:443/B4B-ZR-%28LF%29%28SN%29-JST-datasheet-12514103.pdf?src-supplier=TME; ComponentLink8URL: https://datasheet.octopart.com:443/B4B-ZR-%28LF%29%28SN%29-JST-datasheet-8328021.pdf?src-supplier=Burklin+Elektronik; ComponentLink8Description: https://datasheet.octopart.com:443/B4B-ZR-%28LF%29%28SN%29-JST-datasheet-8328021.pdf?src-supplier=Burklin+Elektronik; ComponentLink9URL: https://datasheet.octopart.com:443/B4B-ZR%28LF%29%28SN%29-JST-datasheet-10152.pdf?src-supplier=DigiKey; ComponentLink9Description: https://datasheet.octopart.com:443/B4B-ZR%28LF%29%28SN%29-JST-datasheet-10152.pdf?src-supplier=DigiKey; LCSC Part Number: C20544728
footprint B4B-ZR(LF)(SN)
pins: 1, 2, 3, 4

## CD74HCT4053PWR
designator U?
IC SWITCH SPDTX3 130OHM 16TSSOP; Manufacturer: Texas Instruments; Manufacturer Lifecycle Status: ACTIVE; Bandwidth: 200MHz; Dual Supply Voltage: 3V; High Level Output Current: 25mA; Logic Function: Demultiplexer, Multiplexer; Max Dual Supply Voltage: 5V; Max Supply Voltage: 5.5V; Min Dual Supply Voltage: 1V; Min Supply Voltage: 4.5V; Nominal Supply Current: 16µA; Number of Bits: 2; Number of Circuits: 1; Number of Inputs: 6; Number of Outputs: 3; Polarity: Non-Inverting; Propagation Delay: 12ns; Value: 130Ω; Supply Type: Dual, Single; Throw Configuration: SPDT; Turn-Off Delay Time: 44ns; Turn-On Delay Time: 48ns; Supplier: DigiKey; Supplier Part Number: 296-9279-1-ND; Manufacturer Part Number: CD74HCT4053PWR; RoHS: Compliant; Category: Analog Switches and Multiplexers; Stock: 5404; Pricing: 1=0.39, 10=0.271, 25=0.39, 100=0.2099, 250=0.19452, 500=0.18526, 1000=0.17839 (EUR); Case/Package: TSSOP; Contact Plating: Gold; Height: 1.2mm; Lead Free: Lead Free; Length: 5mm; Lifecycle Status: Production; Low Level Output Current: 25mA; Max Operating Temperature: 125°C; Min Operating Temperature: -55°C; Mounting Technology: Surface Mount; Number of Channels: 2; Pins: 16; Operating Supply Voltage: 5V; Packaging: Cut Tape; Radiation Hardening: No; Schedule B: 8542390000, 8542390000|8542390000|8542390000|8542390000|8542390000; Thickness: 1mm; Weight: 61.887009mg; Width: 4.4mm; ComponentLink1URL: https://sigma.octopart.com:443/189718192/technical_drawing/Texas-Instruments-CD74HCT4053PWR.pdf?src-supplier=Texas+Instruments; ComponentLink1Description: https://sigma.octopart.com:443/189718192/technical_drawing/Texas-Instruments-CD74HCT4053PWR.pdf?src-supplier=Texas+Instruments; ComponentLink2URL: https://octopart.com:443/opatz8j6/c1?t=r_EXInCMpPACudhKHzZ8bO5bgSUH3J-qCdRFK7eM-zh2CG9zjUf3zSY1pJujiAxLsrBmH7g8iNICbwVvUDjupCTvpSm23ziT2Rsf8v0JwFdr4nhEGUs8X3qbimKNF4sojUm_sdC48My8RX7newMZQsim8ypD0oplg5H23-Zskb2gpnOwYzN2IxOyKiO0U3m98B2y_JhJSXv1aloE7x8_ft6wIJAiwzPng7kHihF-WIR8yKUl-8_XFKfUm0lqx9F5E99EkWYyZ6glj6wGdA3pMxEu2ukoUMqXVhiEYiL-qtiowiB2hQCVoeQkf6zOjxPA9C3zMK9RAjvLXxGaNaoGjjy9WRMsekgvf89phFeZKXqLTg-uMU4c_tvOGxuAsuLkZsmYt2Jz8Q&src-supplier=Texas+Instruments; ComponentLink2Description: https://octopart.com:443/opatz8j6/c1?t=r_EXInCMpPACudhKHzZ8bO5bgSUH3J-qCdRFK7eM-zh2CG9zjUf3zSY1pJujiAxLsrBmH7g8iNICbwVvUDjupCTvpSm23ziT2Rsf8v0JwFdr4nhEGUs8X3qbimKNF4sojUm_sdC48My8RX7newMZQsim8ypD0oplg5H23-Zskb2gpnOwYzN2IxOyKiO0U3m98B2y_JhJSXv1aloE7x8_ft6wIJAiwzPng7kHihF-WIR8yKUl-8_XFKfUm0lqx9F5E99EkWYyZ6glj6wGdA3pMxEu2ukoUMqXVhiEYiL-qtiowiB2hQCVoeQkf6zOjxPA9C3zMK9RAjvLXxGaNaoGjjy9WRMsekgvf89phFeZKXqLTg-uMU4c_tvOGxuAsuLkZsmYt2Jz8Q&src-supplier=Texas+Instruments; ComponentLink3URL: https://datasheet.octopart.com:443/CD74HCT4053PWR-Texas-Instruments-datasheet-41204773.pdf?src-supplier=Texas+Instruments; ComponentLink3Description: https://datasheet.octopart.com:443/CD74HCT4053PWR-Texas-Instruments-datasheet-41204773.pdf?src-supplier=Texas+Instruments; ComponentLink4URL: https://sigma.octopart.com:443/116621398/technical_drawing/Texas-Instruments-CD74HCT4053PWR.pdf?src-supplier=Texas+Instruments; ComponentLink4Description: https://sigma.octopart.com:443/116621398/technical_drawing/Texas-Instruments-CD74HCT4053PWR.pdf?src-supplier=Texas+Instruments; ComponentLink5URL: https://sigma.octopart.com:443/49249815/technical_drawing/Texas-Instruments-CD74HCT4053PWR.pdf?src-supplier=Texas+Instruments; ComponentLink5Description: https://sigma.octopart.com:443/49249815/technical_drawing/Texas-Instruments-CD74HCT4053PWR.pdf?src-supplier=Texas+Instruments; ComponentLink6URL: https://datasheet.octopart.com:443/CD74HCT4053PWR-Texas-Instruments-datasheet-150011.pdf?src-supplier=Mouser; ComponentLink6Description: https://datasheet.octopart.com:443/CD74HCT4053PWR-Texas-Instruments-datasheet-150011.pdf?src-supplier=Mouser; ComponentLink7URL: https://datasheet.octopart.com:443/CD74HCT4053PWR-Texas-Instruments-datasheet-89139790.pdf?src-supplier=TME; ComponentLink7Description: https://datasheet.octopart.com:443/CD74HCT4053PWR-Texas-Instruments-datasheet-89139790.pdf?src-supplier=TME; ComponentLink8URL: https://datasheet.octopart.com:443/CD74HCT4053PWR-Texas-Instruments-datasheet-165803830.pdf?src-supplier=LCSC; ComponentLink8Description: https://datasheet.octopart.com:443/CD74HCT4053PWR-Texas-Instruments-datasheet-165803830.pdf?src-supplier=LCSC; ComponentLink9URL: https://datasheet.octopart.com:443/CD74HCT4053PWR-Texas-Instruments-datasheet-164413548.pdf?src-supplier=SHENGYU+ELECTRONICS; ComponentLink9Description: https://datasheet.octopart.com:443/CD74HCT4053PWR-Texas-Instruments-datasheet-164413548.pdf?src-supplier=SHENGYU+ELECTRONICS; ComponentLink10URL: https://datasheet.octopart.com:443/CD74HCT4053PWR-Texas-Instruments-datasheet-31668943.pdf?src-supplier=Newark; ComponentLink10Description: https://datasheet.octopart.com:443/CD74HCT4053PWR-Texas-Instruments-datasheet-31668943.pdf?src-supplier=Newark; ComponentLink11URL: https://datasheet.octopart.com:443/CD74HCT4053PWR-Texas-Instruments-datasheet-21220249.pdf?src-supplier=Newark; ComponentLink11Description: https://datasheet.octopart.com:443/CD74HCT4053PWR-Texas-Instruments-datasheet-21220249.pdf?src-supplier=Newark; ComponentLink12URL: https://datasheet.octopart.com:443/CD74HCT4053PWR-Texas-Instruments-datasheet-14119461.pdf?src-supplier=iiiC; ComponentLink12Description: https://datasheet.octopart.com:443/CD74HCT4053PWR-Texas-Instruments-datasheet-14119461.pdf?src-supplier=iiiC; ComponentLink13URL: https://datasheet.octopart.com:443/CD74HCT4053PWR-Texas-Instruments-datasheet-11517245.pdf?src-supplier=Arrow+Electronics; ComponentLink13Description: https://datasheet.octopart.com:443/CD74HCT4053PWR-Texas-Instruments-datasheet-11517245.pdf?src-supplier=Arrow+Electronics; ComponentLink14URL: https://datasheet.octopart.com:443/CD74HCT4053PWR-Texas-Instruments-datasheet-115721.pdf?src-supplier=Sierra+IC; ComponentLink14Description: https://datasheet.octopart.com:443/CD74HCT4053PWR-Texas-Instruments-datasheet-115721.pdf?src-supplier=Sierra+IC; ComponentLink15URL: https://datasheet.octopart.com:443/CD74HCT4053PWR-Texas-Instruments-datasheet-4176.pdf?src-supplier=DigiKey; ComponentLink15Description: https://datasheet.octopart.com:443/CD74HCT4053PWR-Texas-Instruments-datasheet-4176.pdf?src-supplier=DigiKey; ComponentLink16URL: http://sigma.octopart.com:80/conflict_mineral_statement/Texas-Instruments-company-63.pdf?src-supplier=Compliance+Statements; ComponentLink16Description: http://sigma.octopart.com:80/conflict_mineral_statement/Texas-Instruments-company-63.pdf?src-supplier=Compliance+Statements; ComponentLink17URL: http://sigma.octopart.com:80/reach_statement/Texas-Instruments-company-64.pdf?src-supplier=Compliance+Statements; ComponentLink17Description: http://sigma.octopart.com:80/reach_statement/Texas-Instruments-company-64.pdf?src-supplier=Compliance+Statements; LCSC Part Number: C2673103
footprint CD74HCT4053PWR (SOP, 16-Leads, Body 5.1x4.5mm, Pitch 0.65mm, IPC High Density)
pins: 1 B1, 2 B0, 3 C1, 4 CN, 5 C0, 6 ~{E} (in), 7 VEE (power), 8 GND (power), 9 S2 (in), 10 S1 (in), 11 S0 (in), 12 A0, 13 A1, 14 AN, 15 BN, 16 VCC (power)

## CD4053BPWR
designator U?
IC SWITCH SPDTX3 240OHM 16TSSOP; Manufacturer: Texas Instruments; Manufacturer Lifecycle Status: ACTIVE; -3db Bandwidth: 30MHz; Drain to Source Resistance: 240Ω; Logic Function: Demultiplexer, Multiplexer; Max Dual Supply Voltage: 9V; Max Junction Temperature (Tj): 150°C; Max Supply Voltage: 20V; Min Dual Supply Voltage: 2.5V; Min Supply Voltage: 3V; Nominal Supply Current: 100mA; Number of Channels: 3; Number of Inputs: 6; Operating Supply Current: 80nA; Operating Supply Voltage: 18V; Polarity: Non-Inverting; Propagation Delay: 60ns; Supply Type: Dual, Single; Throw Configuration: SPDT; Turn-Off Delay Time: 450ns; Turn-On Delay Time: 720ns; Supplier: DigiKey; Supplier Part Number: 296-14117-1-ND; Manufacturer Part Number: CD4053BPWR; RoHS: Compliant; Category: Analog Switches and Multiplexers; Stock: 15637; Pricing: 1=0.4, 10=0.279, 25=0.4, 100=0.2158, 250=0.20008, 500=0.19064, 1000=0.18387 (EUR); Bandwidth: 30MHz; Case/Package: TSSOP; Contact Plating: Gold; Height: 1.2mm; Lead Free: Lead Free; Length: 5mm; Lifecycle Status: Production; Max Operating Temperature: 125°C; Min Operating Temperature: -55°C; Mounting Technology: Surface Mount; Number of Circuits: 3; Number of Outputs: 3; Pins: 16; Quiescent Current: 80nA; Radiation Hardening: No; REACH SVHC: No; Schedule B: 8542390000, 8542390000|8542390000|8542390000|8542390000|8542390000; Thickness: 1mm; Weight: 61.887009mg; Width: 4.4mm; ComponentLink1URL: https://sigma.octopart.com:443/189718192/technical_drawing/Texas-Instruments-CD4053BPWR.pdf?src-supplier=Texas+Instruments; ComponentLink1Description: https://sigma.octopart.com:443/189718192/technical_drawing/Texas-Instruments-CD4053BPWR.pdf?src-supplier=Texas+Instruments; ComponentLink2URL: https://octopart.com:443/opatz8j6/c1?t=6R177RNltDDYCh6H-w-zTHHvFkHrLVQKh39Qzd_HrvBNvmgdCy5qEsa0mfpVmcm5eyJbdfKCSdH7omhCWuoM6w1RRAvuj0OocnPPs95VfrjsXd3CD812-zfDELyDev5ZC0rWSeR1RMtH-_lmJASLqs4qp0xwLDVc3wr1-mE5ko46Ghs0h3kbkhjVzWusulVM26V4iFdpPmO0_yeYc9d8IT4KpSupE-hBY9tb1NrRv5FO8G4JSQQMlv7pjHh6IBWZ9ijQztKqb0f-Vr5oaI3G6EqxBUTLk2-CyfgYc1HO3XQWXmkR9lMlBS2nfZno2dKj6l49JO1XXE7ZlRETAECyeErUfOtYG8ZZHOC1pQp4e2jeicqkqwy8Z8V4YsapmS_nTYRF&src-supplier=Texas+Instruments; ComponentLink2Description: https://octopart.com:443/opatz8j6/c1?t=6R177RNltDDYCh6H-w-zTHHvFkHrLVQKh39Qzd_HrvBNvmgdCy5qEsa0mfpVmcm5eyJbdfKCSdH7omhCWuoM6w1RRAvuj0OocnPPs95VfrjsXd3CD812-zfDELyDev5ZC0rWSeR1RMtH-_lmJASLqs4qp0xwLDVc3wr1-mE5ko46Ghs0h3kbkhjVzWusulVM26V4iFdpPmO0_yeYc9d8IT4KpSupE-hBY9tb1NrRv5FO8G4JSQQMlv7pjHh6IBWZ9ijQztKqb0f-Vr5oaI3G6EqxBUTLk2-CyfgYc1HO3XQWXmkR9lMlBS2nfZno2dKj6l49JO1XXE7ZlRETAECyeErUfOtYG8ZZHOC1pQp4e2jeicqkqwy8Z8V4YsapmS_nTYRF&src-supplier=Texas+Instruments; ComponentLink3URL: https://sigma.octopart.com:443/116621398/technical_drawing/Texas-Instruments-CD4053BPWR.pdf?src-supplier=Texas+Instruments; ComponentLink3Description: https://sigma.octopart.com:443/116621398/technical_drawing/Texas-Instruments-CD4053BPWR.pdf?src-supplier=Texas+Instruments; ComponentLink4URL: https://datasheet.octopart.com:443/CD4053BPWR-Texas-Instruments-datasheet-10253597.pdf?src-supplier=Texas+Instruments; ComponentLink4Description: https://datasheet.octopart.com:443/CD4053BPWR-Texas-Instruments-datasheet-10253597.pdf?src-supplier=Texas+Instruments; ComponentLink5URL: https://sigma.octopart.com:443/49249815/technical_drawing/Texas-Instruments-CD4053BPWR.pdf?src-supplier=Texas+Instruments; ComponentLink5Description: https://sigma.octopart.com:443/49249815/technical_drawing/Texas-Instruments-CD4053BPWR.pdf?src-supplier=Texas+Instruments; ComponentLink6URL: https://datasheet.octopart.com:443/CD4053BPWR-Texas-Instruments-datasheet-148785.pdf?src-supplier=Mouser; ComponentLink6Description: https://datasheet.octopart.com:443/CD4053BPWR-Texas-Instruments-datasheet-148785.pdf?src-supplier=Mouser; ComponentLink7URL: https://datasheet.octopart.com:443/CD4053BPWR-Texas-Instruments-datasheet-154276024.pdf?src-supplier=Upverter; ComponentLink7Description: https://datasheet.octopart.com:443/CD4053BPWR-Texas-Instruments-datasheet-154276024.pdf?src-supplier=Upverter; ComponentLink8URL: https://datasheet.octopart.com:443/CD4053BPWR-Texas-Instruments-datasheet-62345999.pdf?src-supplier=Newark; ComponentLink8Description: https://datasheet.octopart.com:443/CD4053BPWR-Texas-Instruments-datasheet-62345999.pdf?src-supplier=Newark; ComponentLink9URL: https://datasheet.octopart.com:443/CD4053BPWR-Texas-Instruments-datasheet-10694235.pdf?src-supplier=Newark; ComponentLink9Description: https://datasheet.octopart.com:443/CD4053BPWR-Texas-Instruments-datasheet-10694235.pdf?src-supplier=Newark; ComponentLink10URL: https://datasheet.octopart.com:443/CD4053BPWR-Texas-Instruments-datasheet-17021337.pdf?src-supplier=element14+APAC; ComponentLink10Description: https://datasheet.octopart.com:443/CD4053BPWR-Texas-Instruments-datasheet-17021337.pdf?src-supplier=element14+APAC; ComponentLink11URL: https://datasheet.octopart.com:443/CD4053BPWR-Texas-Instruments-datasheet-62088664.pdf?src-supplier=element14+APAC; ComponentLink11Description: https://datasheet.octopart.com:443/CD4053BPWR-Texas-Instruments-datasheet-62088664.pdf?src-supplier=element14+APAC; ComponentLink12URL: https://datasheet.octopart.com:443/CD4053BPWR-Texas-Instruments-datasheet-37129006.pdf?src-supplier=Farnell; ComponentLink12Description: https://datasheet.octopart.com:443/CD4053BPWR-Texas-Instruments-datasheet-37129006.pdf?src-supplier=Farnell; ComponentLink13URL: https://datasheet.octopart.com:443/CD4053BPWR-Texas-Instruments-datasheet-32026515.pdf?src-supplier=Farnell; ComponentLink13Description: https://datasheet.octopart.com:443/CD4053BPWR-Texas-Instruments-datasheet-32026515.pdf?src-supplier=Farnell; ComponentLink14URL: https://datasheet.octopart.com:443/CD4053BPWR-Texas-Instruments-datasheet-165803805.pdf?src-supplier=LCSC; ComponentLink14Description: https://datasheet.octopart.com:443/CD4053BPWR-Texas-Instruments-datasheet-165803805.pdf?src-supplier=LCSC; ComponentLink15URL: https://datasheet.octopart.com:443/CD4053BPWR-Texas-Instruments-datasheet-159114769.pdf?src-supplier=LCSC; ComponentLink15Description: https://datasheet.octopart.com:443/CD4053BPWR-Texas-Instruments-datasheet-159114769.pdf?src-supplier=LCSC; ComponentLink16URL: https://datasheet.octopart.com:443/CD4053BPWR-Texas-Instruments-datasheet-148393487.pdf?src-supplier=SHENGYU+ELECTRONICS; ComponentLink16Description: https://datasheet.octopart.com:443/CD4053BPWR-Texas-Instruments-datasheet-148393487.pdf?src-supplier=SHENGYU+ELECTRONICS; ComponentLink17URL: https://datasheet.octopart.com:443/CD4053BPWR-Texas-Instruments-datasheet-14119637.pdf?src-supplier=iiiC; ComponentLink17Description: https://datasheet.octopart.com:443/CD4053BPWR-Texas-Instruments-datasheet-14119637.pdf?src-supplier=iiiC; ComponentLink18URL: https://datasheet.octopart.com:443/CD4053BPWR-Texas-Instruments-datasheet-11518364.pdf?src-supplier=Arrow+Electronics; ComponentLink18Description: https://datasheet.octopart.com:443/CD4053BPWR-Texas-Instruments-datasheet-11518364.pdf?src-supplier=Arrow+Electronics; ComponentLink19URL: https://datasheet.octopart.com:443/CD4053BPWR-Texas-Instruments-datasheet-8428635.pdf?src-supplier=Jameco; ComponentLink19Description: https://datasheet.octopart.com:443/CD4053BPWR-Texas-Instruments-datasheet-8428635.pdf?src-supplier=Jameco; ComponentLink20URL: https://datasheet.octopart.com:443/CD4053BPWR-Texas-Instruments-datasheet-42768.pdf?src-supplier=DigiKey; ComponentLink20Description: https://datasheet.octopart.com:443/CD4053BPWR-Texas-Instruments-datasheet-42768.pdf?src-supplier=DigiKey; ComponentLink21URL: http://sigma.octopart.com:80/conflict_mineral_statement/Texas-Instruments-company-63.pdf?src-supplier=Compliance+Statements; ComponentLink21Description: http://sigma.octopart.com:80/conflict_mineral_statement/Texas-Instruments-company-63.pdf?src-supplier=Compliance+Statements; ComponentLink22URL: http://sigma.octopart.com:80/reach_statement/Texas-Instruments-company-64.pdf?src-supplier=Compliance+Statements; ComponentLink22Description: http://sigma.octopart.com:80/reach_statement/Texas-Instruments-company-64.pdf?src-supplier=Compliance+Statements; LCSC Part Number: C106760
footprint CD4053BPWR
pins: 1 by, 2 bx, 3 cy, 4 cx/cy, 5 cx, 6 INH, 7 VEE, 8 VSS, 9 C, 10 B, 11 A, 12 ax, 13 ay, 14 ax/ay, 15 bx/by, 16 VDD